# Altium schematic symbol library MAX22246CAWA+.SchLib: 2 symbols
Pins are listed as number, name and electrical type; pins without a type are passive.

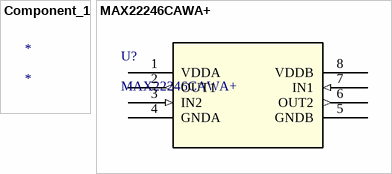
[diagram p0: symbols Component_1 to MAX22246CAWA+]

## Component_1
designator *

## MAX22246CAWA+
designator U?
No Description Available; Mfr_Name: Analog Devices Inc; Copyright: Copyright (C) 2023 Ultra Librarian. All rights reserved.; Manufacturer_Part_Number: MAX22246CAWA+; Digi-Key_Part_Number_1: 175-MAX22246CAWA+-ND; RefDes: RefDes; Type: DEV
footprint 21-100415_MXM
pins: 1 VDDA (power), 2 OUT1 (out), 3 IN2 (in), 4 GNDA (power), 5 GNDB (power), 6 OUT2 (out), 7 IN1 (in), 8 VDDB (power)